# Altium schematic symbol library 4AE_LM.SCHLIB: 8 symbols
Pins are listed as number, name and electrical type; pins without a type are passive.

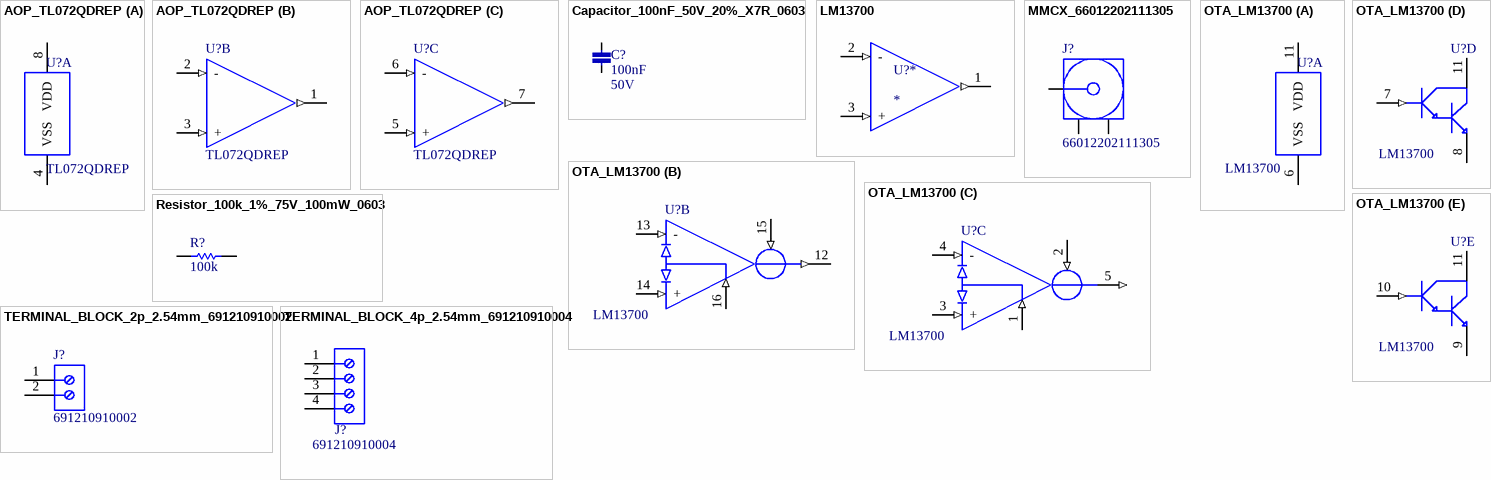
[diagram p0: symbols AOP_TL072QDREP to TERMINAL_BLOCK_4p_2.54mm_691210910004]

## AOP_TL072QDREP
designator U?  Ref: TL072QDREP  (hidden comment: AOP_TL072QDREP)
low noise Jfet input amplifier; Constructor: Texas Instruments; Type: Semiconductors
footprint SOIC8
part A pins: 4 VSS (power), 8 VDD (power)
part B pins: 1 outA (out), 2 - (in), 3 + (in)
part C pins: 5 + (in), 6 - (in), 7 outB (out)

## Capacitor_100nF_50V_20%_X7R_0603
designator C?  value 100nF  Tension: 50V  (hidden comment: Capacitor_100nF_50V_20%_X7R_0603)
Capacitor 100nF 50V 20% X7R 0603; Constructor: Samsung; Ref@RFI: C-0603-3n-A-4; Type: Passive; Ref: CL10B104JB8NNNC; Tol: 20%; Tech: X7R
footprint 0603
pins: 1, 2

## LM13700
designator U?*
pins: 1 outA (out), 2 - (in), 3 + (in)

## MMCX_66012202111305
designator J?  Ref: 66012202111305  (hidden comment: MMCX_66012202111305)
Connecteur MMCX  horizontal SMD; Constructor: Wurth; Type: Connector
footprint MMCX_66012202111305 (Footprint not found)
pins: 1 Signal "Signal Pin", 2 GND (power), 3 GND (power)

## OTA_LM13700
designator U?, comment LM13700
OTA; Constructor: Texas Instruments; Type: Semiconductors; Ref: LM13700
footprint SOIC16L
part A pins: 6 VSS (power), 11 VDD (power)
part B pins: 12 outA (out), 13 - (in), 14 + (in), 15 (in), 16 (in)
part C pins: 1 (in), 2 (in), 3 + (in), 4 - (in), 5 (in)
part D pins: 7 (in), 8 (power), 11 VDD (power)
part E pins: 9 (power), 10 (in), 11 VDD (power)

## Resistor_100k_1%_75V_100mW_0603
designator R?  value 100k  (hidden comment: Resistor_100k_1%_75V_100mW_0603)
Resistor 100k 1% 75V 100mW 0603; Constructor: Panasonic; Ref: ERJ-3EKF1003V; Type: Passive; Voltage: 75V; Tol: 1%; Power: 100mW
footprint 0603
pins: 1, 2

## TERMINAL_BLOCK_2p_2.54mm_691210910002
designator J?  Ref: 691210910002  (hidden comment: TERMINAL_BLOCK_2p_2.54mm_691210910002)
WR-TBL Series 2109 - 2.54 mm Horiz. Entry; Constructor: Wurth electronik; Type: Connector
footprint TerminalBlock_2.54mm_2p_691210910002 (Footprint not found)
pins: 1, 2

## TERMINAL_BLOCK_4p_2.54mm_691210910004
designator J?  Ref: 691210910004  (hidden comment: TERMINAL_BLOCK_4p_2.54mm_691210910004)
WR-TBL Series 2109 - 2.54 mm Horiz. Entry; Constructor: Wurth electronik; Type: Connector
footprint TerminalBlock_2.54mm_4p_691210910004 (2,54mm - modular - green - Horizontal wire entry - Cage clamp - 0,8mm2 wires - 04p)
pins: 1, 2, 3, 4